# Altium schematic symbol library TNPW0805270RBETA.SchLib: 1 symbol
Pins are listed as number, name and electrical type; pins without a type are passive.

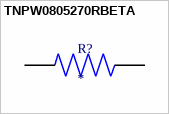
[diagram p0: symbol TNPW0805270RBETA]

## TNPW0805270RBETA
designator R?
MP: TNPW0805270RBETA; MF: {'manufacturer': u'Vishay'}; Availability: Unavailable; Package: None; Value: *; Price: None
footprint RESC2012X55N
pins: 1, 2